# EAGLE library part MT29F1G16 (library JLB6_Processor)
Nand Flash 16bits MT29F1G16 Micron K9K1216 Samsung
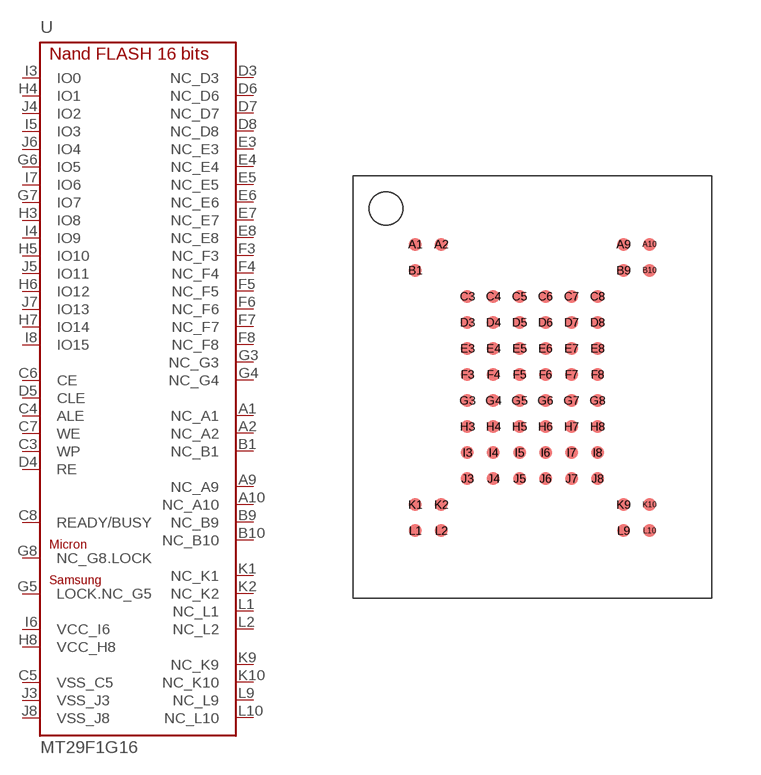
[diagram p19: symbol with the pads of BGA63; footprint BGA63]

Designator prefix U

## MT29F1G16  [BGA63]
A1  NC_A1
A2  NC_A2
A9  NC_A9
A10  NC_A10
B1  NC_B1
B9  NC_B9
B10  NC_B10
C3  WP
C4  ALE
C5  VSS_C5
C6  CE
C7  WE
C8  READY/BUSY
D3  NC_D3
D4  RE
D5  CLE
D6  NC_D6
D7  NC_D7
D8  NC_D8
E3  NC_E3
E4  NC_E4
E5  NC_E5
E6  NC_E6
E7  NC_E7
E8  NC_E8
F3  NC_F3
F4  NC_F4
F5  NC_F5
F6  NC_F6
F7  NC_F7
F8  NC_F8
G3  NC_G3
G4  NC_G4
G5  LOCK.NC_G5
G6  IO5
G7  IO7
G8  NC_G8.LOCK
H3  IO8
H4  IO1
H5  IO10
H6  IO12
H7  IO14
H8  VCC_H8
I3  IO0
I4  IO9
I5  IO3
I6  VCC_I6
I7  IO6
I8  IO15
J3  VSS_J3
J4  IO2
J5  IO11
J6  IO4
J7  IO13
J8  VSS_J8
K1  NC_K1
K2  NC_K2
K9  NC_K9
K10  NC_K10
L1  NC_L1
L2  NC_L2
L9  NC_L9
L10  NC_L10

## Footprint BGA63 (pad centres in mm)
smd 0.4 x 0.4: A1 -3.6,4.4; A2 -2.8,4.4; A9 2.8,4.4; A10 3.6,4.4; B1 -3.6,3.6; B9 2.8,3.6; B10 3.6,3.6; C3 -2,2.8; C4 -1.2,2.8; C5 -0.4,2.8; C6 0.4,2.8; C7 1.2,2.8; C8 2,2.8; D3 -2,2; D4 -1.2,2; D5 -0.4,2; D6 0.4,2; D7 1.2,2; D8 2,2; E3 -2,1.2; E4 -1.2,1.2; E5 -0.4,1.2; E6 0.4,1.2; E7 1.2,1.2; E8 2,1.2; F3 -2,0.4; F4 -1.2,0.4; F5 -0.4,0.4; F6 0.4,0.4; F7 1.2,0.4; F8 2,0.4; G3 -2,-0.4; G4 -1.2,-0.4; G5 -0.4,-0.4; G6 0.4,-0.4; G7 1.2,-0.4; G8 2,-0.4; H3 -2,-1.2; H4 -1.2,-1.2; H5 -0.4,-1.2; H6 0.4,-1.2; H7 1.2,-1.2; H8 2,-1.2; I3 -2,-2; I4 -1.2,-2; I5 -0.4,-2; I6 0.4,-2; I7 1.2,-2; I8 2,-2; J3 -2,-2.8; J4 -1.2,-2.8; J5 -0.4,-2.8; J6 0.4,-2.8; J7 1.2,-2.8; J8 2,-2.8; K1 -3.6,-3.6; K2 -2.8,-3.6; K9 2.8,-3.6; K10 3.6,-3.6; L1 -3.6,-4.4; L2 -2.8,-4.4; L9 2.8,-4.4; L10 3.6,-4.4